# Altium schematic symbol library Raspberry.SchLib: 1 symbol
Pins are listed as number, name and electrical type; pins without a type are passive.

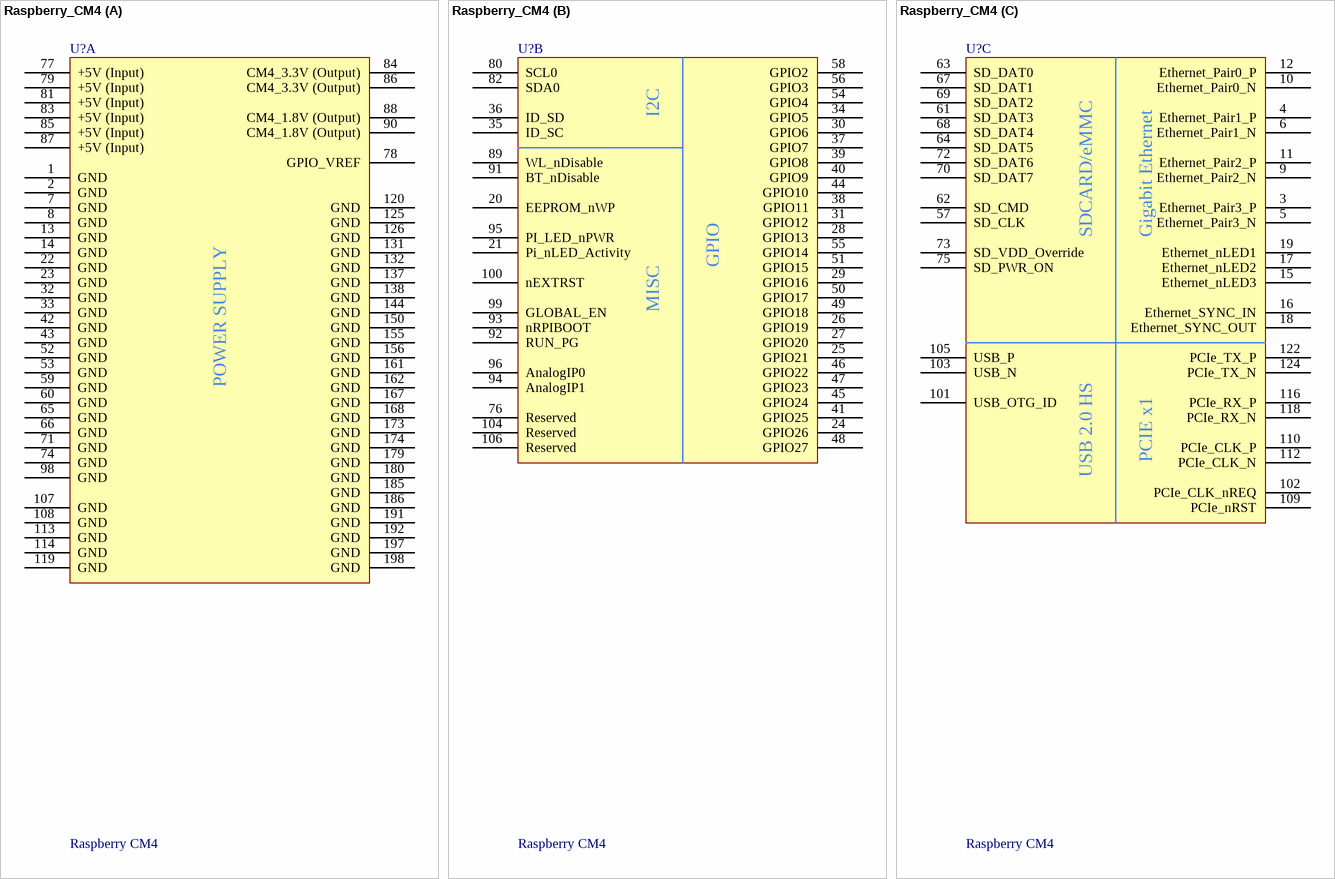
[diagram p0: symbol Raspberry_CM4]

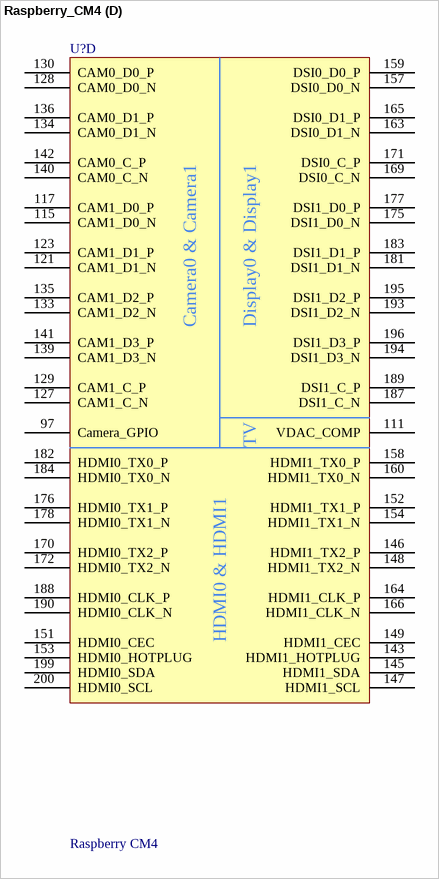
[diagram p1: symbol Raspberry_CM4]

## Raspberry_CM4
designator U?, comment Raspberry CM4
footprint Raspberry_CM4 (CM4_200PIN)
part A pins: 1 GND, 2 GND, 7 GND, 8 GND, 13 GND, 14 GND, 22 GND, 23 GND, 32 GND, 33 GND, 42 GND, 43 GND, 52 GND, 53 GND, 59 GND, 60 GND, 65 GND, 66 GND, 71 GND, 74 GND, 77 +5V (Input), 78 GPIO_VREF, 79 +5V (Input), 81 +5V (Input), 83 +5V (Input), 84 CM4_3.3V (Output), 85 +5V (Input), 86 CM4_3.3V (Output), 87 +5V (Input), 88 CM4_1.8V (Output), 90 CM4_1.8V (Output), 98 GND, 107 GND, 108 GND, 113 GND, 114 GND, 119 GND, 120 GND, 125 GND, 126 GND, 131 GND, 132 GND, 137 GND, 138 GND, 144 GND, 150 GND, 155 GND, 156 GND, 161 GND, 162 GND, 167 GND, 168 GND, 173 GND, 174 GND, 179 GND, 180 GND, 185 GND, 186 GND, 191 GND, 192 GND, 197 GND, 198 GND
part B pins: 20 EEPROM_nWP, 21 Pi_nLED_Activity, 24 GPIO26, 25 GPIO21, 26 GPIO19, 27 GPIO20, 28 GPIO13, 29 GPIO16, 30 GPIO6, 31 GPIO12, 34 GPIO5, 35 ID_SC, 36 ID_SD, 37 GPIO7, 38 GPIO11, 39 GPIO8, 40 GPIO9, 41 GPIO25, 44 GPIO10, 45 GPIO24, 46 GPIO22, 47 GPIO23, 48 GPIO27, 49 GPIO18, 50 GPIO17, 51 GPIO15, 54 GPIO4, 55 GPIO14, 56 GPIO3, 58 GPIO2, 76 Reserved, 80 SCL0, 82 SDA0, 89 WL_nDisable, 91 BT_nDisable, 92 RUN_PG, 93 nRPIBOOT, 94 AnalogIP1, 95 PI_LED_nPWR, 96 AnalogIP0, 99 GLOBAL_EN, 100 nEXTRST, 104 Reserved, 106 Reserved
part C pins: 3 Ethernet_Pair3_P, 4 Ethernet_Pair1_P, 5 Ethernet_Pair3_N, 6 Ethernet_Pair1_N, 9 Ethernet_Pair2_N, 10 Ethernet_Pair0_N, 11 Ethernet_Pair2_P, 12 Ethernet_Pair0_P, 15 Ethernet_nLED3, 16 Ethernet_SYNC_IN, 17 Ethernet_nLED2, 18 Ethernet_SYNC_OUT, 19 Ethernet_nLED1, 57 SD_CLK, 61 SD_DAT3, 62 SD_CMD, 63 SD_DAT0, 64 SD_DAT5, 67 SD_DAT1, 68 SD_DAT4, 69 SD_DAT2, 70 SD_DAT7, 72 SD_DAT6, 73 SD_VDD_Override, 75 SD_PWR_ON, 101 USB_OTG_ID, 102 PCIe_CLK_nREQ, 103 USB_N, 105 USB_P, 109 PCIe_nRST, 110 PCIe_CLK_P, 112 PCIe_CLK_N, 116 PCIe_RX_P, 118 PCIe_RX_N, 122 PCIe_TX_P, 124 PCIe_TX_N
part D pins: 97 Camera_GPIO, 111 VDAC_COMP, 115 CAM1_D0_N, 117 CAM1_D0_P, 121 CAM1_D1_N, 123 CAM1_D1_P, 127 CAM1_C_N, 128 CAM0_D0_N, 129 CAM1_C_P, 130 CAM0_D0_P, 133 CAM1_D2_N, 134 CAM0_D1_N, 135 CAM1_D2_P, 136 CAM0_D1_P, 139 CAM1_D3_N, 140 CAM0_C_N, 141 CAM1_D3_P, 142 CAM0_C_P, 143 HDMI1_HOTPLUG, 145 HDMI1_SDA, 146 HDMI1_TX2_P, 147 HDMI1_SCL, 148 HDMI1_TX2_N, 149 HDMI1_CEC, 151 HDMI0_CEC, 152 HDMI1_TX1_P, 153 HDMI0_HOTPLUG, 154 HDMI1_TX1_N, 157 DSI0_D0_N, 158 HDMI1_TX0_P, 159 DSI0_D0_P, 160 HDMI1_TX0_N, 163 DSI0_D1_N, 164 HDMI1_CLK_P, 165 DSI0_D1_P, 166 HDMI1_CLK_N, 169 DSI0_C_N, 170 HDMI0_TX2_P, 171 DSI0_C_P, 172 HDMI0_TX2_N, 175 DSI1_D0_N, 176 HDMI0_TX1_P, 177 DSI1_D0_P, 178 HDMI0_TX1_N, 181 DSI1_D1_N, 182 HDMI0_TX0_P, 183 DSI1_D1_P, 184 HDMI0_TX0_N, 187 DSI1_C_N, 188 HDMI0_CLK_P, 189 DSI1_C_P, 190 HDMI0_CLK_N, 193 DSI1_D2_N, 194 DSI1_D3_N, 195 DSI1_D2_P, 196 DSI1_D3_P, 199 HDMI0_SDA, 200 HDMI0_SCL
part A text: POWER SUPPLY
part B text: I2C; GPIO; MISC
part C text: SDCARD/eMMC; Gigabit Ethernet; PCIE x1; USB 2.0 HS
part D text: Camera0 & Camera1; Display0 & Display1; TV; HDMI0 & HDMI1